# Altium integrated library Xilinx XC17S00.IntLib: 62 symbols (part 1 of 2)
Pins are listed as number, name and electrical type; pins without a type are passive.

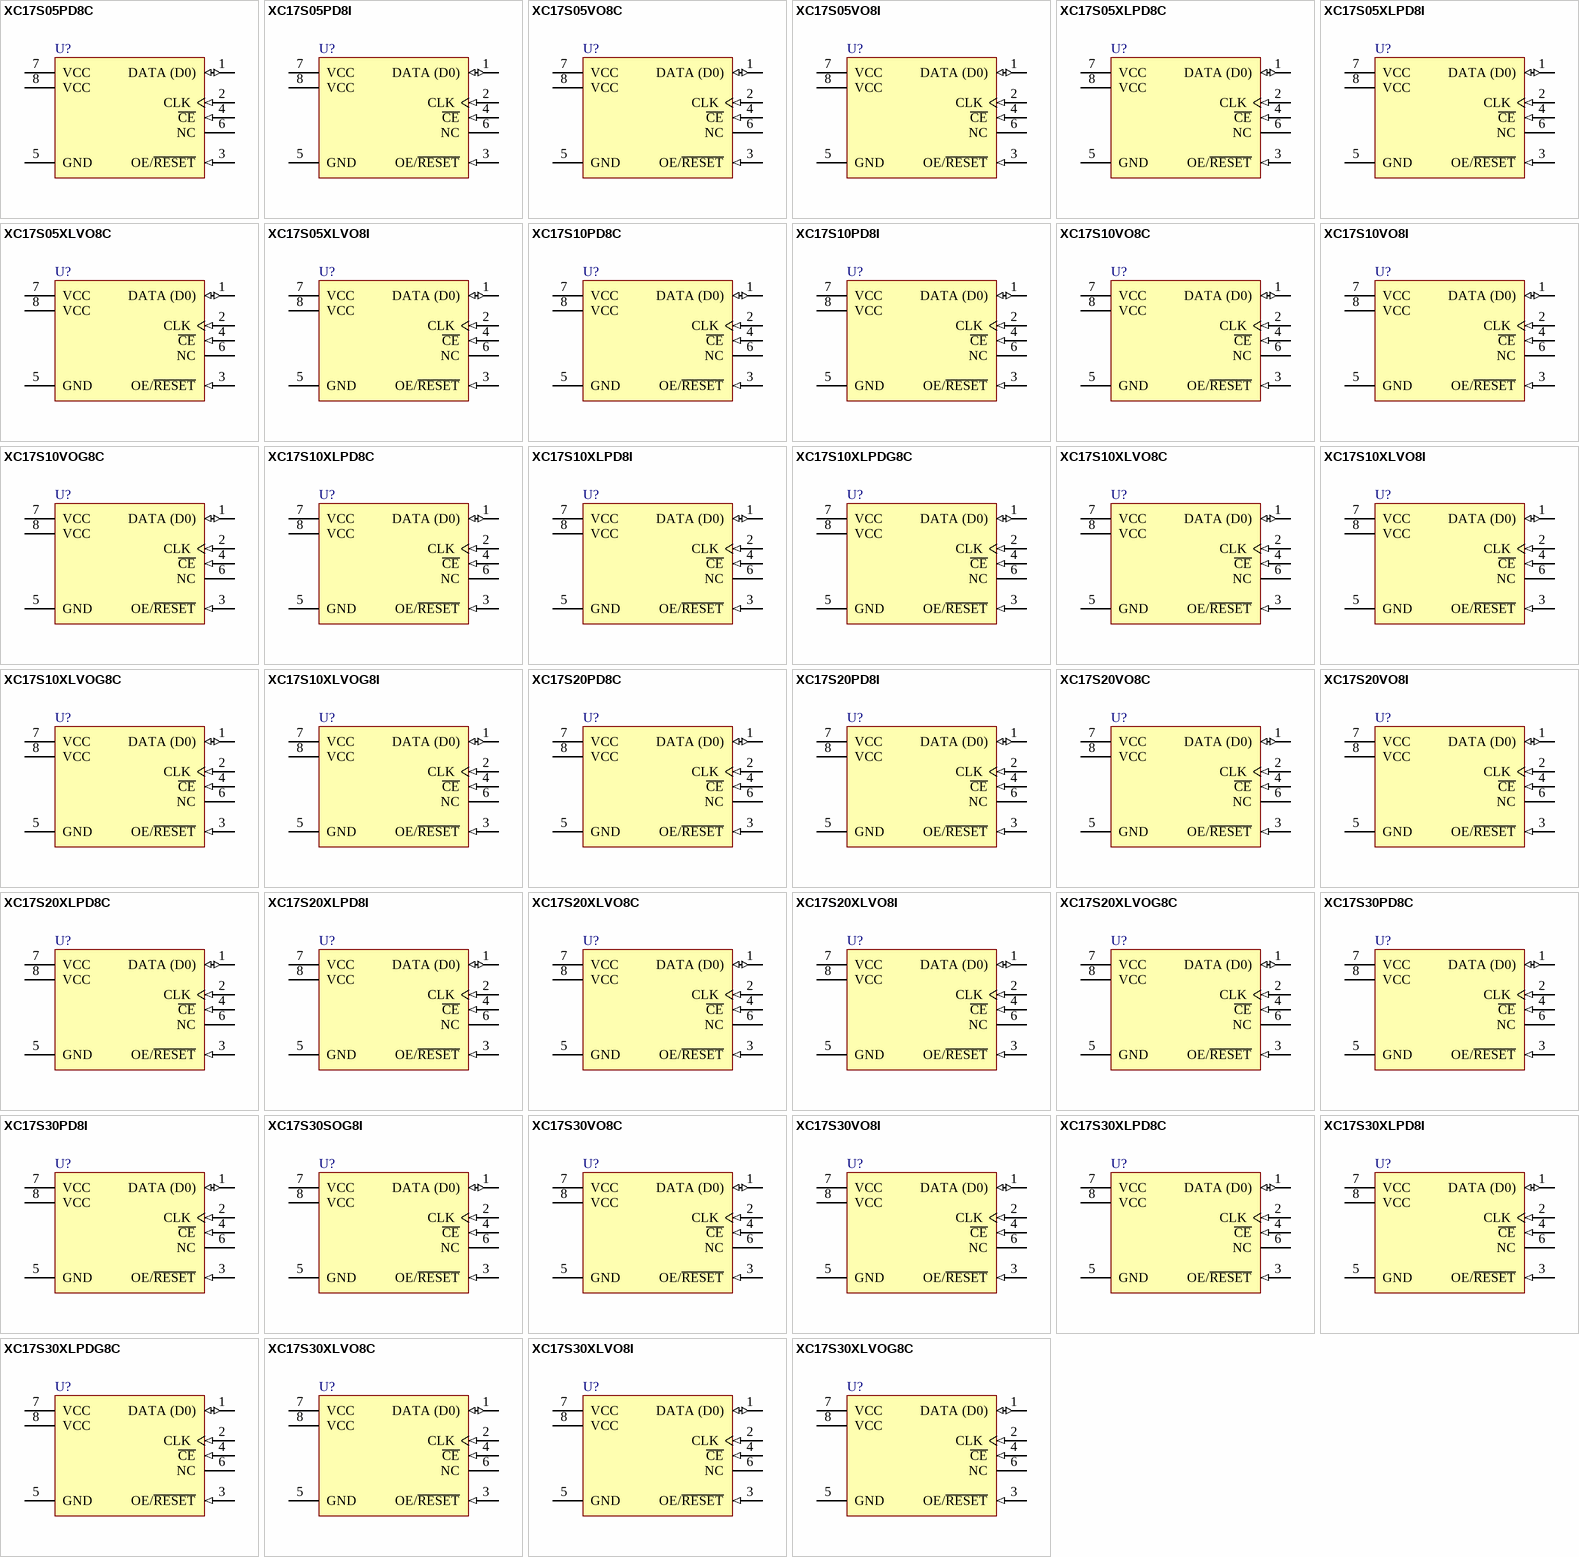
[diagram p0: symbols XC17S05PD8C to XC17S30XLVOG8C]

## XC17S05PD8C
designator U?
XC17S00 Series, One-Time Programmable Configuration 5V PROM, 8-Pin PDIP, XCS05 Compatible, Commercial Grade; Published: 17-Dec-2003; DatasheetVersion: ver1.12, Jun-2008; PackageVersion: rev1.1, Apr-2001; PackageReference: PD8; Publisher: Altium Limited; PackageDescription: 8-Pin Plastic DIP (PD8); Supplier 1: Digi-Key; Supplier Part Number 1: XC17S05PD8C-ND; Code_JEDEC: MS-001-BA; ComponentLink1Description: XC17S00/XL Datasheet; ComponentLink1URL: http://www.xilinx.com/support/documentation/data_sheets/ds030.pdf; ComponentLink2Description: PD8 Package Drawing; ComponentLink2URL: http://www.xilinx.com/support/documentation/package_specs/pd08.pdf; ComponentLink3Description: Configuration PROM Documents; ComponentLink3URL: http://www.xilinx.com/support/documentation/configuration_proms.htm; ComponentLink4Description: Xilinx.com Home; ComponentLink4URL: http://www.xilinx.com
footprint PD8 (DIP, 8-Leads, Row Spacing 7.62mm, Pitch 2.54mm, Body 9.36x6.5mm)
pins: 1 DATA (D0) (io) "Data Output.", 2 CLK (in) "Clock input for internal address counter.", 3 OE/~{RESET} (in) "DATA Output Enable/Address Counter Reset", 4 ~{CE} (in) "Reset internal Address Counter, Disable DATA Output, Force device into Standby Mode.", 5 GND (power) "Ground.", 6 NC "No Connection.", 7 VCC (power) "Positive Supply.", 8 VCC (power) "Positive Supply."

## XC17S05PD8I
designator U?
XC17S00 Series, One-Time Programmable Configuration 5V PROM, 8-Pin PDIP, XCS05 Compatible, Industrial Grade; Published: 17-Dec-2003; DatasheetVersion: ver1.12, Jun-2008; PackageVersion: rev1.1, Apr-2001; PackageReference: PD8; Publisher: Altium Limited; PackageDescription: 8-Pin Plastic DIP (PD8); Supplier 1: Digi-Key; Supplier Part Number 1: XC17S05PD8I-ND; Code_JEDEC: MS-001-BA; ComponentLink1Description: XC17S00/XL Datasheet; ComponentLink1URL: http://www.xilinx.com/support/documentation/data_sheets/ds030.pdf; ComponentLink2Description: PD8 Package Drawing; ComponentLink2URL: http://www.xilinx.com/support/documentation/package_specs/pd08.pdf; ComponentLink3Description: Configuration PROM Documents; ComponentLink3URL: http://www.xilinx.com/support/documentation/configuration_proms.htm; ComponentLink4Description: Xilinx.com Home; ComponentLink4URL: http://www.xilinx.com
footprint PD8 (DIP, 8-Leads, Row Spacing 7.62mm, Pitch 2.54mm, Body 9.36x6.5mm)
pins: 1 DATA (D0) (io) "Data Output.", 2 CLK (in) "Clock input for internal address counter.", 3 OE/~{RESET} (in) "DATA Output Enable/Address Counter Reset", 4 ~{CE} (in) "Reset internal Address Counter, Disable DATA Output, Force device into Standby Mode.", 5 GND (power) "Ground.", 6 NC "No Connection.", 7 VCC (power) "Positive Supply.", 8 VCC (power) "Positive Supply."

## XC17S05VO8C
designator U?
XC17S00 Series, One-Time Programmable Configuration 5V PROM, 8-Pin TSOP, XCS05 Compatible, Commercial Grade; Published: 17-Dec-2003; LatestRevisionDate: 16-Nov-2009; LatestRevisionNote: Updated to datasheet version 1.12, Jun-2008.; DatasheetVersion: ver1.12, Jun-2008; PackageVersion: ver1.1, Apr-2001; PackageReference: VO8; Publisher: Altium Limited; PackageDescription: 8-Pin Thin Small Outline Package (VO8); Supplier 1: Digi-Key; Supplier Part Number 1: XC17S05VO8C-ND; ComponentLink1Description: XC17S00/XL Datasheet; ComponentLink1URL: http://www.xilinx.com/support/documentation/data_sheets/ds030.pdf; ComponentLink2Description: VO8 Package Drawing; ComponentLink2URL: http://www.xilinx.com/support/documentation/package_specs/vo8.pdf; ComponentLink3Description: Configuration PROM Documents; ComponentLink3URL: http://www.xilinx.com/support/documentation/configuration_proms.htm; ComponentLink4Description: Xilinx.com Home; ComponentLink4URL: http://www.xilinx.com
footprint VO8_N (SOIC, 8-Leads, Body 4.9x3.9mm, Pitch 1.27mm, IPC Medium Density)
footprint VO8_L (SOIC, 8-Leads, Body 4.9x3.9mm, Pitch 1.27mm, IPC High Density)
footprint VO8_M (SOIC, 8-Leads, Body 4.9x3.9mm, Pitch 1.27mm, IPC Low Density)
pins: 1 DATA (D0) (io) "Data Output.", 2 CLK (in) "Clock input for internal address counter.", 3 OE/~{RESET} (in) "DATA Output Enable/Address Counter Reset", 4 ~{CE} (in) "Reset internal Address Counter, Disable DATA Output, Force device into Standby Mode.", 5 GND (power) "Ground.", 6 NC "No Connection.", 7 VCC (power) "Positive Supply.", 8 VCC (power) "Positive Supply."

## XC17S05VO8I
designator U?
XC17S00 Series, One-Time Programmable Configuration 5V PROM, 8-Pin TSOP, XCS05 Compatible, Industrial Grade; Published: 17-Dec-2003; LatestRevisionDate: 16-Nov-2009; LatestRevisionNote: Updated to datasheet version 1.12, Jun-2008.; DatasheetVersion: ver1.12, Jun-2008; PackageVersion: ver1.1, Apr-2001; PackageReference: VO8; Publisher: Altium Limited; PackageDescription: 8-Pin Thin Small Outline Package (VO8); Supplier 1: Digi-Key; Supplier Part Number 1: XC17S05VO8I-ND; ComponentLink1Description: XC17S00/XL Datasheet; ComponentLink1URL: http://www.xilinx.com/support/documentation/data_sheets/ds030.pdf; ComponentLink2Description: VO8 Package Drawing; ComponentLink2URL: http://www.xilinx.com/support/documentation/package_specs/vo8.pdf; ComponentLink3Description: Configuration PROM Documents; ComponentLink3URL: http://www.xilinx.com/support/documentation/configuration_proms.htm; ComponentLink4Description: Xilinx.com Home; ComponentLink4URL: http://www.xilinx.com
footprint VO8_N (SOIC, 8-Leads, Body 4.9x3.9mm, Pitch 1.27mm, IPC Medium Density)
footprint VO8_L (SOIC, 8-Leads, Body 4.9x3.9mm, Pitch 1.27mm, IPC High Density)
footprint VO8_M (SOIC, 8-Leads, Body 4.9x3.9mm, Pitch 1.27mm, IPC Low Density)
pins: 1 DATA (D0) (io) "Data Output.", 2 CLK (in) "Clock input for internal address counter.", 3 OE/~{RESET} (in) "DATA Output Enable/Address Counter Reset", 4 ~{CE} (in) "Reset internal Address Counter, Disable DATA Output, Force device into Standby Mode.", 5 GND (power) "Ground.", 6 NC "No Connection.", 7 VCC (power) "Positive Supply.", 8 VCC (power) "Positive Supply."

## XC17S05XLPD8C
designator U?
XC17S00XL Series, One-Time Programmable Configuration 3.3V PROM, 8-Pin PDIP, XCS05XL Compatible, Commercial Grade; Published: 17-Dec-2003; DatasheetVersion: ver1.12, Jun-2008; PackageVersion: rev1.1, Apr-2001; PackageReference: PD8; Publisher: Altium Limited; PackageDescription: 8-Pin Plastic DIP (PD8); Supplier 1: Digi-Key; Supplier Part Number 1: XC17S05XLPD8C-ND; Code_JEDEC: MS-001-BA; ComponentLink1Description: XC17S00/XL Datasheet; ComponentLink1URL: http://www.xilinx.com/support/documentation/data_sheets/ds030.pdf; ComponentLink2Description: PD8 Package Drawing; ComponentLink2URL: http://www.xilinx.com/support/documentation/package_specs/pd08.pdf; ComponentLink3Description: Configuration PROM Documents; ComponentLink3URL: http://www.xilinx.com/support/documentation/configuration_proms.htm; ComponentLink4Description: Xilinx.com Home; ComponentLink4URL: http://www.xilinx.com
footprint PD8 (DIP, 8-Leads, Row Spacing 7.62mm, Pitch 2.54mm, Body 9.36x6.5mm)
pins: 1 DATA (D0) (io) "Data Output.", 2 CLK (in) "Clock input for internal address counter.", 3 OE/~{RESET} (in) "DATA Output Enable/Address Counter Reset", 4 ~{CE} (in) "Reset internal Address Counter, Disable DATA Output, Force device into Standby Mode.", 5 GND (power) "Ground.", 6 NC "No Connection.", 7 VCC (power) "Positive Supply.", 8 VCC (power) "Positive Supply."

## XC17S05XLPD8I
designator U?
XC17S00XL Series, One-Time Programmable Configuration 3.3V PROM, 8-Pin PDIP, XCS05XL Compatible, Industrial Grade; Published: 17-Dec-2003; DatasheetVersion: ver1.12, Jun-2008; PackageVersion: rev1.1, Apr-2001; PackageReference: PD8; Publisher: Altium Limited; PackageDescription: 8-Pin Plastic DIP (PD8); Supplier 1: Digi-Key; Supplier Part Number 1: XC17S05XLPD8I-ND; Code_JEDEC: MS-001-BA; ComponentLink1Description: XC17S00/XL Datasheet; ComponentLink1URL: http://www.xilinx.com/support/documentation/data_sheets/ds030.pdf; ComponentLink2Description: PD8 Package Drawing; ComponentLink2URL: http://www.xilinx.com/support/documentation/package_specs/pd08.pdf; ComponentLink3Description: Configuration PROM Documents; ComponentLink3URL: http://www.xilinx.com/support/documentation/configuration_proms.htm; ComponentLink4Description: Xilinx.com Home; ComponentLink4URL: http://www.xilinx.com
footprint PD8 (DIP, 8-Leads, Row Spacing 7.62mm, Pitch 2.54mm, Body 9.36x6.5mm)
pins: 1 DATA (D0) (io) "Data Output.", 2 CLK (in) "Clock input for internal address counter.", 3 OE/~{RESET} (in) "DATA Output Enable/Address Counter Reset", 4 ~{CE} (in) "Reset internal Address Counter, Disable DATA Output, Force device into Standby Mode.", 5 GND (power) "Ground.", 6 NC "No Connection.", 7 VCC (power) "Positive Supply.", 8 VCC (power) "Positive Supply."

## XC17S05XLVO8C
designator U?
XC17S00XL Series, One-Time Programmable Configuration 3.3V PROM, 8-Pin TSOP, XCS05XL Compatible, Commercial Grade; Published: 17-Dec-2003; LatestRevisionDate: 16-Nov-2009; LatestRevisionNote: Updated to datasheet version 1.12, Jun-2008.; DatasheetVersion: ver1.12, Jun-2008; PackageVersion: ver1.1, Apr-2001; PackageReference: VO8; Publisher: Altium Limited; PackageDescription: 8-Pin Thin Small Outline Package (VO8); Supplier 1: Digi-Key; Supplier Part Number 1: XC17S05XLVO8C-ND; ComponentLink1Description: XC17S00/XL Datasheet; ComponentLink1URL: http://www.xilinx.com/support/documentation/data_sheets/ds030.pdf; ComponentLink2Description: VO8 Package Drawing; ComponentLink2URL: http://www.xilinx.com/support/documentation/package_specs/vo8.pdf; ComponentLink3Description: Configuration PROM Documents; ComponentLink3URL: http://www.xilinx.com/support/documentation/configuration_proms.htm; ComponentLink4Description: Xilinx.com Home; ComponentLink4URL: http://www.xilinx.com
footprint VO8_N (SOIC, 8-Leads, Body 4.9x3.9mm, Pitch 1.27mm, IPC Medium Density)
footprint VO8_L (SOIC, 8-Leads, Body 4.9x3.9mm, Pitch 1.27mm, IPC High Density)
footprint VO8_M (SOIC, 8-Leads, Body 4.9x3.9mm, Pitch 1.27mm, IPC Low Density)
pins: 1 DATA (D0) (io) "Data Output.", 2 CLK (in) "Clock input for internal address counter.", 3 OE/~{RESET} (in) "DATA Output Enable/Address Counter Reset", 4 ~{CE} (in) "Reset internal Address Counter, Disable DATA Output, Force device into Standby Mode.", 5 GND (power) "Ground.", 6 NC "No Connection.", 7 VCC (power) "Positive Supply.", 8 VCC (power) "Positive Supply."

## XC17S05XLVO8I
designator U?
XC17S00XL Series, One-Time Programmable Configuration 3.3V PROM, 8-Pin TSOP, XCS05XL Compatible, Industrial Grade; Published: 17-Dec-2003; LatestRevisionDate: 16-Nov-2009; LatestRevisionNote: Updated to datasheet version 1.12, Jun-2008.; DatasheetVersion: ver1.12, Jun-2008; PackageVersion: ver1.1, Apr-2001; PackageReference: VO8; Publisher: Altium Limited; PackageDescription: 8-Pin Thin Small Outline Package (VO8); Supplier 1: Digi-Key; Supplier Part Number 1: XC17S05XLVO8I-ND; ComponentLink1Description: XC17S00/XL Datasheet; ComponentLink1URL: http://www.xilinx.com/support/documentation/data_sheets/ds030.pdf; ComponentLink2Description: VO8 Package Drawing; ComponentLink2URL: http://www.xilinx.com/support/documentation/package_specs/vo8.pdf; ComponentLink3Description: Configuration PROM Documents; ComponentLink3URL: http://www.xilinx.com/support/documentation/configuration_proms.htm; ComponentLink4Description: Xilinx.com Home; ComponentLink4URL: http://www.xilinx.com
footprint VO8_N (SOIC, 8-Leads, Body 4.9x3.9mm, Pitch 1.27mm, IPC Medium Density)
footprint VO8_L (SOIC, 8-Leads, Body 4.9x3.9mm, Pitch 1.27mm, IPC High Density)
footprint VO8_M (SOIC, 8-Leads, Body 4.9x3.9mm, Pitch 1.27mm, IPC Low Density)
pins: 1 DATA (D0) (io) "Data Output.", 2 CLK (in) "Clock input for internal address counter.", 3 OE/~{RESET} (in) "DATA Output Enable/Address Counter Reset", 4 ~{CE} (in) "Reset internal Address Counter, Disable DATA Output, Force device into Standby Mode.", 5 GND (power) "Ground.", 6 NC "No Connection.", 7 VCC (power) "Positive Supply.", 8 VCC (power) "Positive Supply."

## XC17S10PD8C
designator U?
XC17S00 Series, One-Time Programmable Configuration 5V PROM, 8-Pin PDIP, XCS10 Compatible, Commercial Grade; Published: 17-Dec-2003; DatasheetVersion: ver1.12, Jun-2008; PackageVersion: rev1.1, Apr-2001; PackageReference: PD8; Publisher: Altium Limited; PackageDescription: 8-Pin Plastic DIP (PD8); Supplier 1: Digi-Key; Supplier Part Number 1: XC17S10PD8C-ND; Code_JEDEC: MS-001-BA; ComponentLink1Description: XC17S00/XL Datasheet; ComponentLink1URL: http://www.xilinx.com/support/documentation/data_sheets/ds030.pdf; ComponentLink2Description: PD8 Package Drawing; ComponentLink2URL: http://www.xilinx.com/support/documentation/package_specs/pd08.pdf; ComponentLink3Description: Configuration PROM Documents; ComponentLink3URL: http://www.xilinx.com/support/documentation/configuration_proms.htm; ComponentLink4Description: Xilinx.com Home; ComponentLink4URL: http://www.xilinx.com
footprint PD8 (DIP, 8-Leads, Row Spacing 7.62mm, Pitch 2.54mm, Body 9.36x6.5mm)
pins: 1 DATA (D0) (io) "Data Output.", 2 CLK (in) "Clock input for internal address counter.", 3 OE/~{RESET} (in) "DATA Output Enable/Address Counter Reset", 4 ~{CE} (in) "Reset internal Address Counter, Disable DATA Output, Force device into Standby Mode.", 5 GND (power) "Ground.", 6 NC "No Connection.", 7 VCC (power) "Positive Supply.", 8 VCC (power) "Positive Supply."

## XC17S10PD8I
designator U?
XC17S00 Series, One-Time Programmable Configuration 5V PROM, 8-Pin PDIP, XCS10 Compatible, Industrial Grade; Published: 17-Dec-2003; DatasheetVersion: ver1.12, Jun-2008; PackageVersion: rev1.1, Apr-2001; PackageReference: PD8; Publisher: Altium Limited; PackageDescription: 8-Pin Plastic DIP (PD8); Supplier 1: Digi-Key; Supplier Part Number 1: XC17S10PD8I-ND; Code_JEDEC: MS-001-BA; ComponentLink1Description: XC17S00/XL Datasheet; ComponentLink1URL: http://www.xilinx.com/support/documentation/data_sheets/ds030.pdf; ComponentLink2Description: PD8 Package Drawing; ComponentLink2URL: http://www.xilinx.com/support/documentation/package_specs/pd08.pdf; ComponentLink3Description: Configuration PROM Documents; ComponentLink3URL: http://www.xilinx.com/support/documentation/configuration_proms.htm; ComponentLink4Description: Xilinx.com Home; ComponentLink4URL: http://www.xilinx.com
footprint PD8 (DIP, 8-Leads, Row Spacing 7.62mm, Pitch 2.54mm, Body 9.36x6.5mm)
pins: 1 DATA (D0) (io) "Data Output.", 2 CLK (in) "Clock input for internal address counter.", 3 OE/~{RESET} (in) "DATA Output Enable/Address Counter Reset", 4 ~{CE} (in) "Reset internal Address Counter, Disable DATA Output, Force device into Standby Mode.", 5 GND (power) "Ground.", 6 NC "No Connection.", 7 VCC (power) "Positive Supply.", 8 VCC (power) "Positive Supply."

## XC17S10VO8C
designator U?
XC17S00 Series, One-Time Programmable Configuration 5V PROM, 8-Pin TSOP, XCS10 Compatible, Commercial Grade; Published: 17-Dec-2003; LatestRevisionDate: 16-Nov-2009; LatestRevisionNote: Updated to datasheet version 1.12, Jun-2008.; DatasheetVersion: ver1.12, Jun-2008; PackageVersion: ver1.1, Apr-2001; PackageReference: VO8; Publisher: Altium Limited; PackageDescription: 8-Pin Thin Small Outline Package (VO8); Supplier 1: Digi-Key; Supplier Part Number 1: XC17S10VO8C-ND; ComponentLink1Description: XC17S00/XL Datasheet; ComponentLink1URL: http://www.xilinx.com/support/documentation/data_sheets/ds030.pdf; ComponentLink2Description: VO8 Package Drawing; ComponentLink2URL: http://www.xilinx.com/support/documentation/package_specs/vo8.pdf; ComponentLink3Description: Configuration PROM Documents; ComponentLink3URL: http://www.xilinx.com/support/documentation/configuration_proms.htm; ComponentLink4Description: Xilinx.com Home; ComponentLink4URL: http://www.xilinx.com
footprint VO8_N (SOIC, 8-Leads, Body 4.9x3.9mm, Pitch 1.27mm, IPC Medium Density)
footprint VO8_L (SOIC, 8-Leads, Body 4.9x3.9mm, Pitch 1.27mm, IPC High Density)
footprint VO8_M (SOIC, 8-Leads, Body 4.9x3.9mm, Pitch 1.27mm, IPC Low Density)
pins: 1 DATA (D0) (io) "Data Output.", 2 CLK (in) "Clock input for internal address counter.", 3 OE/~{RESET} (in) "DATA Output Enable/Address Counter Reset", 4 ~{CE} (in) "Reset internal Address Counter, Disable DATA Output, Force device into Standby Mode.", 5 GND (power) "Ground.", 6 NC "No Connection.", 7 VCC (power) "Positive Supply.", 8 VCC (power) "Positive Supply."

## XC17S10VO8I
designator U?
XC17S00 Series, One-Time Programmable Configuration 5V PROM, 8-Pin TSOP, XCS10 Compatible, Industrial Grade; Published: 17-Dec-2003; LatestRevisionDate: 16-Nov-2009; LatestRevisionNote: Updated to datasheet version 1.12, Jun-2008.; DatasheetVersion: ver1.12, Jun-2008; PackageVersion: ver1.1, Apr-2001; PackageReference: VO8; Publisher: Altium Limited; PackageDescription: 8-Pin Thin Small Outline Package (VO8); Supplier 1: Digi-Key; Supplier Part Number 1: XC17S10VO8I-ND; ComponentLink1Description: XC17S00/XL Datasheet; ComponentLink1URL: http://www.xilinx.com/support/documentation/data_sheets/ds030.pdf; ComponentLink2Description: VO8 Package Drawing; ComponentLink2URL: http://www.xilinx.com/support/documentation/package_specs/vo8.pdf; ComponentLink3Description: Configuration PROM Documents; ComponentLink3URL: http://www.xilinx.com/support/documentation/configuration_proms.htm; ComponentLink4Description: Xilinx.com Home; ComponentLink4URL: http://www.xilinx.com
footprint VO8_N (SOIC, 8-Leads, Body 4.9x3.9mm, Pitch 1.27mm, IPC Medium Density)
footprint VO8_L (SOIC, 8-Leads, Body 4.9x3.9mm, Pitch 1.27mm, IPC High Density)
footprint VO8_M (SOIC, 8-Leads, Body 4.9x3.9mm, Pitch 1.27mm, IPC Low Density)
pins: 1 DATA (D0) (io) "Data Output.", 2 CLK (in) "Clock input for internal address counter.", 3 OE/~{RESET} (in) "DATA Output Enable/Address Counter Reset", 4 ~{CE} (in) "Reset internal Address Counter, Disable DATA Output, Force device into Standby Mode.", 5 GND (power) "Ground.", 6 NC "No Connection.", 7 VCC (power) "Positive Supply.", 8 VCC (power) "Positive Supply."

## XC17S10VOG8C
designator U?
XC17S00 Series, One-Time Programmable Configuration 5V PROM, 8-Pin TSOP, XCS10 Compatible, Commercial Grade, Pb-Free; Published: 17-Nov-2009; DatasheetVersion: ver1.12, Jun-2008; PackageVersion: ver1.1, Apr-2001; PackageReference: VOG8; Publisher: Altium Limited; PackageDescription: 8-Pin Thin Small Outline Package (VOG8) - Pb-Free; Supplier 1: Digi-Key; Supplier Part Number 1: XC17S10VOG8C-ND; ComponentLink1Description: XC17S00/XL Datasheet; ComponentLink1URL: http://www.xilinx.com/support/documentation/data_sheets/ds030.pdf; ComponentLink2Description: VOG8 Package Drawing; ComponentLink2URL: http://www.xilinx.com/support/documentation/package_specs/vo8.pdf; ComponentLink3Description: Configuration PROM Documents; ComponentLink3URL: http://www.xilinx.com/support/documentation/configuration_proms.htm; ComponentLink4Description: Xilinx.com Home; ComponentLink4URL: http://www.xilinx.com
footprint VOG8_N (SOIC, 8-Leads, Body 4.9x3.9mm, Pitch 1.27mm, IPC Medium Density)
footprint VOG8_L (SOIC, 8-Leads, Body 4.9x3.9mm, Pitch 1.27mm, IPC High Density)
footprint VOG8_M (SOIC, 8-Leads, Body 4.9x3.9mm, Pitch 1.27mm, IPC Low Density)
pins: 1 DATA (D0) (io) "Data Output.", 2 CLK (in) "Clock input for internal address counter.", 3 OE/~{RESET} (in) "DATA Output Enable/Address Counter Reset", 4 ~{CE} (in) "Reset internal Address Counter, Disable DATA Output, Force device into Standby Mode.", 5 GND (power) "Ground.", 6 NC "No Connection.", 7 VCC (power) "Positive Supply.", 8 VCC (power) "Positive Supply."

## XC17S10XLPD8C
designator U?
XC17S00XL Series, One-Time Programmable Configuration 3.3V PROM, 8-Pin PDIP, XCS10XL Compatible, Commercial Grade; Published: 17-Dec-2003; DatasheetVersion: ver1.12, Jun-2008; PackageVersion: rev1.1, Apr-2001; PackageReference: PD8; Publisher: Altium Limited; PackageDescription: 8-Pin Plastic DIP (PD8); Supplier 1: Digi-Key; Supplier Part Number 1: XC17S10XLPD8C-ND; Code_JEDEC: MS-001-BA; ComponentLink1Description: XC17S00/XL Datasheet; ComponentLink1URL: http://www.xilinx.com/support/documentation/data_sheets/ds030.pdf; ComponentLink2Description: PD8 Package Drawing; ComponentLink2URL: http://www.xilinx.com/support/documentation/package_specs/pd08.pdf; ComponentLink3Description: Configuration PROM Documents; ComponentLink3URL: http://www.xilinx.com/support/documentation/configuration_proms.htm; ComponentLink4Description: Xilinx.com Home; ComponentLink4URL: http://www.xilinx.com
footprint PD8 (DIP, 8-Leads, Row Spacing 7.62mm, Pitch 2.54mm, Body 9.36x6.5mm)
pins: 1 DATA (D0) (io) "Data Output.", 2 CLK (in) "Clock input for internal address counter.", 3 OE/~{RESET} (in) "DATA Output Enable/Address Counter Reset", 4 ~{CE} (in) "Reset internal Address Counter, Disable DATA Output, Force device into Standby Mode.", 5 GND (power) "Ground.", 6 NC "No Connection.", 7 VCC (power) "Positive Supply.", 8 VCC (power) "Positive Supply."

## XC17S10XLPD8I
designator U?
XC17S00XL Series, One-Time Programmable Configuration 3.3V PROM, 8-Pin PDIP, XCS10XL Compatible, Industrial Grade; Published: 17-Dec-2003; DatasheetVersion: ver1.12, Jun-2008; PackageVersion: rev1.1, Apr-2001; PackageReference: PD8; Publisher: Altium Limited; PackageDescription: 8-Pin Plastic DIP (PD8); Supplier 1: Digi-Key; Supplier Part Number 1: XC17S10XLPD8I-ND; Code_JEDEC: MS-001-BA; ComponentLink1Description: XC17S00/XL Datasheet; ComponentLink1URL: http://www.xilinx.com/support/documentation/data_sheets/ds030.pdf; ComponentLink2Description: PD8 Package Drawing; ComponentLink2URL: http://www.xilinx.com/support/documentation/package_specs/pd08.pdf; ComponentLink3Description: Configuration PROM Documents; ComponentLink3URL: http://www.xilinx.com/support/documentation/configuration_proms.htm; ComponentLink4Description: Xilinx.com Home; ComponentLink4URL: http://www.xilinx.com
footprint PD8 (DIP, 8-Leads, Row Spacing 7.62mm, Pitch 2.54mm, Body 9.36x6.5mm)
pins: 1 DATA (D0) (io) "Data Output.", 2 CLK (in) "Clock input for internal address counter.", 3 OE/~{RESET} (in) "DATA Output Enable/Address Counter Reset", 4 ~{CE} (in) "Reset internal Address Counter, Disable DATA Output, Force device into Standby Mode.", 5 GND (power) "Ground.", 6 NC "No Connection.", 7 VCC (power) "Positive Supply.", 8 VCC (power) "Positive Supply."

## XC17S10XLPDG8C
designator U?
XC17S00XL Series, One-Time Programmable Configuration 3.3V PROM, 8-Pin PDIP, XCS10XL Compatible, Commercial Grade, Pb-Free; Published: 17-Nov-2009; DatasheetVersion: ver1.12, Jun-2008; PackageVersion: rev1.1, Apr-2001; PackageReference: PDG8; Publisher: Altium Limited; PackageDescription: 8-Pin Plastic DIP (PDG8), Pb-Free; Supplier 1: Digi-Key; Supplier Part Number 1: XC17S10XLPDG8C-ND; Code_JEDEC: MS-001-BA; ComponentLink1Description: XC17S00/XL Datasheet; ComponentLink1URL: http://www.xilinx.com/support/documentation/data_sheets/ds030.pdf; ComponentLink2Description: PDG8 Package Drawing; ComponentLink2URL: http://www.xilinx.com/support/documentation/package_specs/pd08.pdf; ComponentLink3Description: Configuration PROM Documents; ComponentLink3URL: http://www.xilinx.com/support/documentation/configuration_proms.htm; ComponentLink4Description: Xilinx.com Home; ComponentLink4URL: http://www.xilinx.com
footprint PDG8 (DIP, 8-Leads, Row Spacing 7.62mm, Pitch 2.54mm, Body 9.36x6.5mm)
pins: 1 DATA (D0) (io) "Data Output.", 2 CLK (in) "Clock input for internal address counter.", 3 OE/~{RESET} (in) "DATA Output Enable/Address Counter Reset", 4 ~{CE} (in) "Reset internal Address Counter, Disable DATA Output, Force device into Standby Mode.", 5 GND (power) "Ground.", 6 NC "No Connection.", 7 VCC (power) "Positive Supply.", 8 VCC (power) "Positive Supply."

## XC17S10XLVO8C
designator U?
XC17S00XL Series, One-Time Programmable Configuration 3.3V PROM, 8-Pin TSOP, XCS10XL Compatible, Commercial Grade; Published: 17-Dec-2003; LatestRevisionDate: 16-Nov-2009; LatestRevisionNote: Updated to datasheet version 1.12, Jun-2008.; DatasheetVersion: ver1.12, Jun-2008; PackageVersion: ver1.1, Apr-2001; PackageReference: VO8; Publisher: Altium Limited; PackageDescription: 8-Pin Thin Small Outline Package (VO8); Supplier 1: Digi-Key; Supplier Part Number 1: XC17S10XLVO8C-ND; ComponentLink1Description: XC17S00/XL Datasheet; ComponentLink1URL: http://www.xilinx.com/support/documentation/data_sheets/ds030.pdf; ComponentLink2Description: VO8 Package Drawing; ComponentLink2URL: http://www.xilinx.com/support/documentation/package_specs/vo8.pdf; ComponentLink3Description: Configuration PROM Documents; ComponentLink3URL: http://www.xilinx.com/support/documentation/configuration_proms.htm; ComponentLink4Description: Xilinx.com Home; ComponentLink4URL: http://www.xilinx.com
footprint VO8_N (SOIC, 8-Leads, Body 4.9x3.9mm, Pitch 1.27mm, IPC Medium Density)
footprint VO8_L (SOIC, 8-Leads, Body 4.9x3.9mm, Pitch 1.27mm, IPC High Density)
footprint VO8_M (SOIC, 8-Leads, Body 4.9x3.9mm, Pitch 1.27mm, IPC Low Density)
pins: 1 DATA (D0) (io) "Data Output.", 2 CLK (in) "Clock input for internal address counter.", 3 OE/~{RESET} (in) "DATA Output Enable/Address Counter Reset", 4 ~{CE} (in) "Reset internal Address Counter, Disable DATA Output, Force device into Standby Mode.", 5 GND (power) "Ground.", 6 NC "No Connection.", 7 VCC (power) "Positive Supply.", 8 VCC (power) "Positive Supply."

## XC17S10XLVO8I
designator U?
XC17S00XL Series, One-Time Programmable Configuration 3.3V PROM, 8-Pin TSOP, XCS10XL Compatible, Industrial Grade; Published: 17-Dec-2003; LatestRevisionDate: 16-Nov-2009; LatestRevisionNote: Updated to datasheet version 1.12, Jun-2008.; DatasheetVersion: ver1.12, Jun-2008; PackageVersion: ver1.1, Apr-2001; PackageReference: VO8; Publisher: Altium Limited; PackageDescription: 8-Pin Thin Small Outline Package (VO8); Supplier 1: Digi-Key; Supplier Part Number 1: XC17S10XLVO8I-ND; ComponentLink1Description: XC17S00/XL Datasheet; ComponentLink1URL: http://www.xilinx.com/support/documentation/data_sheets/ds030.pdf; ComponentLink2Description: VO8 Package Drawing; ComponentLink2URL: http://www.xilinx.com/support/documentation/package_specs/vo8.pdf; ComponentLink3Description: Configuration PROM Documents; ComponentLink3URL: http://www.xilinx.com/support/documentation/configuration_proms.htm; ComponentLink4Description: Xilinx.com Home; ComponentLink4URL: http://www.xilinx.com
footprint VO8_N (SOIC, 8-Leads, Body 4.9x3.9mm, Pitch 1.27mm, IPC Medium Density)
footprint VO8_L (SOIC, 8-Leads, Body 4.9x3.9mm, Pitch 1.27mm, IPC High Density)
footprint VO8_M (SOIC, 8-Leads, Body 4.9x3.9mm, Pitch 1.27mm, IPC Low Density)
pins: 1 DATA (D0) (io) "Data Output.", 2 CLK (in) "Clock input for internal address counter.", 3 OE/~{RESET} (in) "DATA Output Enable/Address Counter Reset", 4 ~{CE} (in) "Reset internal Address Counter, Disable DATA Output, Force device into Standby Mode.", 5 GND (power) "Ground.", 6 NC "No Connection.", 7 VCC (power) "Positive Supply.", 8 VCC (power) "Positive Supply."

## XC17S10XLVOG8C
designator U?
XC17S00XL Series, One-Time Programmable Configuration 3.3V PROM, 8-Pin TSOP, XCS10XL Compatible, Commercial Grade, Pb-Free; Published: 17-Nov-2009; DatasheetVersion: ver1.12, Jun-2008; PackageVersion: ver1.1, Apr-2001; PackageReference: VOG8; Publisher: Altium Limited; PackageDescription: 8-Pin Thin Small Outline Package (VOG8) - Pb-Free; Supplier 1: Digi-Key; Supplier Part Number 1: XC17S10XLVOG8C-ND; ComponentLink1Description: XC17S00/XL Datasheet; ComponentLink1URL: http://www.xilinx.com/support/documentation/data_sheets/ds030.pdf; ComponentLink2Description: VOG8 Package Drawing; ComponentLink2URL: http://www.xilinx.com/support/documentation/package_specs/vo8.pdf; ComponentLink3Description: Configuration PROM Documents; ComponentLink3URL: http://www.xilinx.com/support/documentation/configuration_proms.htm; ComponentLink4Description: Xilinx.com Home; ComponentLink4URL: http://www.xilinx.com
footprint VOG8_N (SOIC, 8-Leads, Body 4.9x3.9mm, Pitch 1.27mm, IPC Medium Density)
footprint VOG8_L (SOIC, 8-Leads, Body 4.9x3.9mm, Pitch 1.27mm, IPC High Density)
footprint VOG8_M (SOIC, 8-Leads, Body 4.9x3.9mm, Pitch 1.27mm, IPC Low Density)
pins: 1 DATA (D0) (io) "Data Output.", 2 CLK (in) "Clock input for internal address counter.", 3 OE/~{RESET} (in) "DATA Output Enable/Address Counter Reset", 4 ~{CE} (in) "Reset internal Address Counter, Disable DATA Output, Force device into Standby Mode.", 5 GND (power) "Ground.", 6 NC "No Connection.", 7 VCC (power) "Positive Supply.", 8 VCC (power) "Positive Supply."

## XC17S10XLVOG8I
designator U?
XC17S00XL Series, One-Time Programmable Configuration 3.3V PROM, 8-Pin TSOP, XCS10XL Compatible, Industrial Grade, Pb-Free; Published: 17-Nov-2009; DatasheetVersion: ver1.12, Jun-2008; PackageVersion: ver1.1, Apr-2001; PackageReference: VOG8; Publisher: Altium Limited; PackageDescription: 8-Pin Thin Small Outline Package (VOG8) - Pb-Free; Supplier 1: Digi-Key; Supplier Part Number 1: XC17S10XLVOG8I-ND; ComponentLink1Description: XC17S00/XL Datasheet; ComponentLink1URL: http://www.xilinx.com/support/documentation/data_sheets/ds030.pdf; ComponentLink2Description: VOG8 Package Drawing; ComponentLink2URL: http://www.xilinx.com/support/documentation/package_specs/vo8.pdf; ComponentLink3Description: Configuration PROM Documents; ComponentLink3URL: http://www.xilinx.com/support/documentation/configuration_proms.htm; ComponentLink4Description: Xilinx.com Home; ComponentLink4URL: http://www.xilinx.com
footprint VOG8_N (SOIC, 8-Leads, Body 4.9x3.9mm, Pitch 1.27mm, IPC Medium Density)
footprint VOG8_L (SOIC, 8-Leads, Body 4.9x3.9mm, Pitch 1.27mm, IPC High Density)
footprint VOG8_M (SOIC, 8-Leads, Body 4.9x3.9mm, Pitch 1.27mm, IPC Low Density)
pins: 1 DATA (D0) (io) "Data Output.", 2 CLK (in) "Clock input for internal address counter.", 3 OE/~{RESET} (in) "DATA Output Enable/Address Counter Reset", 4 ~{CE} (in) "Reset internal Address Counter, Disable DATA Output, Force device into Standby Mode.", 5 GND (power) "Ground.", 6 NC "No Connection.", 7 VCC (power) "Positive Supply.", 8 VCC (power) "Positive Supply."

## XC17S20PD8C
designator U?
XC17S00 Series, One-Time Programmable Configuration 5V PROM, 8-Pin PDIP, XCS20 Compatible, Commercial Grade; Published: 17-Dec-2003; DatasheetVersion: ver1.12, Jun-2008; PackageVersion: rev1.1, Apr-2001; PackageReference: PD8; Publisher: Altium Limited; PackageDescription: 8-Pin Plastic DIP (PD8); Supplier 1: Digi-Key; Supplier Part Number 1: XC17S20PD8C-ND; Code_JEDEC: MS-001-BA; ComponentLink1Description: XC17S00/XL Datasheet; ComponentLink1URL: http://www.xilinx.com/support/documentation/data_sheets/ds030.pdf; ComponentLink2Description: PD8 Package Drawing; ComponentLink2URL: http://www.xilinx.com/support/documentation/package_specs/pd08.pdf; ComponentLink3Description: Configuration PROM Documents; ComponentLink3URL: http://www.xilinx.com/support/documentation/configuration_proms.htm; ComponentLink4Description: Xilinx.com Home; ComponentLink4URL: http://www.xilinx.com
footprint PD8 (DIP, 8-Leads, Row Spacing 7.62mm, Pitch 2.54mm, Body 9.36x6.5mm)
pins: 1 DATA (D0) (io) "Data Output.", 2 CLK (in) "Clock input for internal address counter.", 3 OE/~{RESET} (in) "DATA Output Enable/Address Counter Reset", 4 ~{CE} (in) "Reset internal Address Counter, Disable DATA Output, Force device into Standby Mode.", 5 GND (power) "Ground.", 6 NC "No Connection.", 7 VCC (power) "Positive Supply.", 8 VCC (power) "Positive Supply."

## XC17S20PD8I
designator U?
XC17S00 Series, One-Time Programmable Configuration 5V PROM, 8-Pin PDIP, XCS20 Compatible, Industrial Grade; Published: 17-Dec-2003; DatasheetVersion: ver1.12, Jun-2008; PackageVersion: rev1.1, Apr-2001; PackageReference: PD8; Publisher: Altium Limited; PackageDescription: 8-Pin Plastic DIP (PD8); Supplier 1: Digi-Key; Supplier Part Number 1: XC17S20PD8I-ND; Code_JEDEC: MS-001-BA; ComponentLink1Description: XC17S00/XL Datasheet; ComponentLink1URL: http://www.xilinx.com/support/documentation/data_sheets/ds030.pdf; ComponentLink2Description: PD8 Package Drawing; ComponentLink2URL: http://www.xilinx.com/support/documentation/package_specs/pd08.pdf; ComponentLink3Description: Configuration PROM Documents; ComponentLink3URL: http://www.xilinx.com/support/documentation/configuration_proms.htm; ComponentLink4Description: Xilinx.com Home; ComponentLink4URL: http://www.xilinx.com
footprint PD8 (DIP, 8-Leads, Row Spacing 7.62mm, Pitch 2.54mm, Body 9.36x6.5mm)
pins: 1 DATA (D0) (io) "Data Output.", 2 CLK (in) "Clock input for internal address counter.", 3 OE/~{RESET} (in) "DATA Output Enable/Address Counter Reset", 4 ~{CE} (in) "Reset internal Address Counter, Disable DATA Output, Force device into Standby Mode.", 5 GND (power) "Ground.", 6 NC "No Connection.", 7 VCC (power) "Positive Supply.", 8 VCC (power) "Positive Supply."

## XC17S20VO8C
designator U?
XC17S00 Series, One-Time Programmable Configuration 5V PROM, 8-Pin TSOP, XCS20 Compatible, Commercial Grade; Published: 17-Dec-2003; LatestRevisionDate: 16-Nov-2009; LatestRevisionNote: Updated to datasheet version 1.12, Jun-2008.; DatasheetVersion: ver1.12, Jun-2008; PackageVersion: ver1.1, Apr-2001; PackageReference: VO8; Publisher: Altium Limited; PackageDescription: 8-Pin Thin Small Outline Package (VO8); Supplier 1: Digi-Key; Supplier Part Number 1: XC17S20VO8C-ND; ComponentLink1Description: XC17S00/XL Datasheet; ComponentLink1URL: http://www.xilinx.com/support/documentation/data_sheets/ds030.pdf; ComponentLink2Description: VO8 Package Drawing; ComponentLink2URL: http://www.xilinx.com/support/documentation/package_specs/vo8.pdf; ComponentLink3Description: Configuration PROM Documents; ComponentLink3URL: http://www.xilinx.com/support/documentation/configuration_proms.htm; ComponentLink4Description: Xilinx.com Home; ComponentLink4URL: http://www.xilinx.com
footprint VO8_N (SOIC, 8-Leads, Body 4.9x3.9mm, Pitch 1.27mm, IPC Medium Density)
footprint VO8_L (SOIC, 8-Leads, Body 4.9x3.9mm, Pitch 1.27mm, IPC High Density)
footprint VO8_M (SOIC, 8-Leads, Body 4.9x3.9mm, Pitch 1.27mm, IPC Low Density)
pins: 1 DATA (D0) (io) "Data Output.", 2 CLK (in) "Clock input for internal address counter.", 3 OE/~{RESET} (in) "DATA Output Enable/Address Counter Reset", 4 ~{CE} (in) "Reset internal Address Counter, Disable DATA Output, Force device into Standby Mode.", 5 GND (power) "Ground.", 6 NC "No Connection.", 7 VCC (power) "Positive Supply.", 8 VCC (power) "Positive Supply."

## XC17S20VO8I
designator U?
XC17S00 Series, One-Time Programmable Configuration 5V PROM, 8-Pin TSOP, XCS20 Compatible, Industrial Grade; Published: 17-Dec-2003; LatestRevisionDate: 16-Nov-2009; LatestRevisionNote: Updated to datasheet version 1.12, Jun-2008.; DatasheetVersion: ver1.12, Jun-2008; PackageVersion: ver1.1, Apr-2001; PackageReference: VO8; Publisher: Altium Limited; PackageDescription: 8-Pin Thin Small Outline Package (VO8); Supplier 1: Digi-Key; Supplier Part Number 1: XC17S20VO8I-ND; ComponentLink1Description: XC17S00/XL Datasheet; ComponentLink1URL: http://www.xilinx.com/support/documentation/data_sheets/ds030.pdf; ComponentLink2Description: VO8 Package Drawing; ComponentLink2URL: http://www.xilinx.com/support/documentation/package_specs/vo8.pdf; ComponentLink3Description: Configuration PROM Documents; ComponentLink3URL: http://www.xilinx.com/support/documentation/configuration_proms.htm; ComponentLink4Description: Xilinx.com Home; ComponentLink4URL: http://www.xilinx.com
footprint VO8_N (SOIC, 8-Leads, Body 4.9x3.9mm, Pitch 1.27mm, IPC Medium Density)
footprint VO8_L (SOIC, 8-Leads, Body 4.9x3.9mm, Pitch 1.27mm, IPC High Density)
footprint VO8_M (SOIC, 8-Leads, Body 4.9x3.9mm, Pitch 1.27mm, IPC Low Density)
pins: 1 DATA (D0) (io) "Data Output.", 2 CLK (in) "Clock input for internal address counter.", 3 OE/~{RESET} (in) "DATA Output Enable/Address Counter Reset", 4 ~{CE} (in) "Reset internal Address Counter, Disable DATA Output, Force device into Standby Mode.", 5 GND (power) "Ground.", 6 NC "No Connection.", 7 VCC (power) "Positive Supply.", 8 VCC (power) "Positive Supply."

## XC17S20XLPD8C
designator U?
XC17S00XL Series, One-Time Programmable Configuration 3.3V PROM, 8-Pin PDIP, XCS20XL Compatible, Commercial Grade; Published: 17-Dec-2003; DatasheetVersion: ver1.12, Jun-2008; PackageVersion: rev1.1, Apr-2001; PackageReference: PD8; Publisher: Altium Limited; PackageDescription: 8-Pin Plastic DIP (PD8); Supplier 1: Digi-Key; Supplier Part Number 1: XC17S20XLPD8C-ND; Code_JEDEC: MS-001-BA; ComponentLink1Description: XC17S00/XL Datasheet; ComponentLink1URL: http://www.xilinx.com/support/documentation/data_sheets/ds030.pdf; ComponentLink2Description: PD8 Package Drawing; ComponentLink2URL: http://www.xilinx.com/support/documentation/package_specs/pd08.pdf; ComponentLink3Description: Configuration PROM Documents; ComponentLink3URL: http://www.xilinx.com/support/documentation/configuration_proms.htm; ComponentLink4Description: Xilinx.com Home; ComponentLink4URL: http://www.xilinx.com
footprint PD8 (DIP, 8-Leads, Row Spacing 7.62mm, Pitch 2.54mm, Body 9.36x6.5mm)
pins: 1 DATA (D0) (io) "Data Output.", 2 CLK (in) "Clock input for internal address counter.", 3 OE/~{RESET} (in) "DATA Output Enable/Address Counter Reset", 4 ~{CE} (in) "Reset internal Address Counter, Disable DATA Output, Force device into Standby Mode.", 5 GND (power) "Ground.", 6 NC "No Connection.", 7 VCC (power) "Positive Supply.", 8 VCC (power) "Positive Supply."

## XC17S20XLPD8I
designator U?
XC17S00XL Series, One-Time Programmable Configuration 3.3V PROM, 8-Pin PDIP, XCS20XL Compatible, Industrial Grade; Published: 17-Dec-2003; DatasheetVersion: ver1.12, Jun-2008; PackageVersion: rev1.1, Apr-2001; PackageReference: PD8; Publisher: Altium Limited; PackageDescription: 8-Pin Plastic DIP (PD8); Supplier 1: Digi-Key; Supplier Part Number 1: XC17S20XLPD8I-ND; Code_JEDEC: MS-001-BA; ComponentLink1Description: XC17S00/XL Datasheet; ComponentLink1URL: http://www.xilinx.com/support/documentation/data_sheets/ds030.pdf; ComponentLink2Description: PD8 Package Drawing; ComponentLink2URL: http://www.xilinx.com/support/documentation/package_specs/pd08.pdf; ComponentLink3Description: Configuration PROM Documents; ComponentLink3URL: http://www.xilinx.com/support/documentation/configuration_proms.htm; ComponentLink4Description: Xilinx.com Home; ComponentLink4URL: http://www.xilinx.com
footprint PD8 (DIP, 8-Leads, Row Spacing 7.62mm, Pitch 2.54mm, Body 9.36x6.5mm)
pins: 1 DATA (D0) (io) "Data Output.", 2 CLK (in) "Clock input for internal address counter.", 3 OE/~{RESET} (in) "DATA Output Enable/Address Counter Reset", 4 ~{CE} (in) "Reset internal Address Counter, Disable DATA Output, Force device into Standby Mode.", 5 GND (power) "Ground.", 6 NC "No Connection.", 7 VCC (power) "Positive Supply.", 8 VCC (power) "Positive Supply."

## XC17S20XLVO8C
designator U?
XC17S00XL Series, One-Time Programmable Configuration 3.3V PROM, 8-Pin TSOP, XCS20XL Compatible, Commercial Grade; Published: 17-Dec-2003; LatestRevisionDate: 16-Nov-2009; LatestRevisionNote: Updated to datasheet version 1.12, Jun-2008.; DatasheetVersion: ver1.12, Jun-2008; PackageVersion: ver1.1, Apr-2001; PackageReference: VO8; Publisher: Altium Limited; PackageDescription: 8-Pin Thin Small Outline Package (VO8); Supplier 1: Digi-Key; Supplier Part Number 1: XC17S20XLVO8C-ND; ComponentLink1Description: XC17S00/XL Datasheet; ComponentLink1URL: http://www.xilinx.com/support/documentation/data_sheets/ds030.pdf; ComponentLink2Description: VO8 Package Drawing; ComponentLink2URL: http://www.xilinx.com/support/documentation/package_specs/vo8.pdf; ComponentLink3Description: Configuration PROM Documents; ComponentLink3URL: http://www.xilinx.com/support/documentation/configuration_proms.htm; ComponentLink4Description: Xilinx.com Home; ComponentLink4URL: http://www.xilinx.com
footprint VO8_N (SOIC, 8-Leads, Body 4.9x3.9mm, Pitch 1.27mm, IPC Medium Density)
footprint VO8_L (SOIC, 8-Leads, Body 4.9x3.9mm, Pitch 1.27mm, IPC High Density)
footprint VO8_M (SOIC, 8-Leads, Body 4.9x3.9mm, Pitch 1.27mm, IPC Low Density)
pins: 1 DATA (D0) (io) "Data Output.", 2 CLK (in) "Clock input for internal address counter.", 3 OE/~{RESET} (in) "DATA Output Enable/Address Counter Reset", 4 ~{CE} (in) "Reset internal Address Counter, Disable DATA Output, Force device into Standby Mode.", 5 GND (power) "Ground.", 6 NC "No Connection.", 7 VCC (power) "Positive Supply.", 8 VCC (power) "Positive Supply."

## XC17S20XLVO8I
designator U?
XC17S00XL Series, One-Time Programmable Configuration 3.3V PROM, 8-Pin TSOP, XCS20XL Compatible, Industrial Grade; Published: 17-Dec-2003; LatestRevisionDate: 16-Nov-2009; LatestRevisionNote: Updated to datasheet version 1.12, Jun-2008.; DatasheetVersion: ver1.12, Jun-2008; PackageVersion: ver1.1, Apr-2001; PackageReference: VO8; Publisher: Altium Limited; PackageDescription: 8-Pin Thin Small Outline Package (VO8); Supplier 1: Digi-Key; Supplier Part Number 1: XC17S20XLVO8I-ND; ComponentLink1Description: XC17S00/XL Datasheet; ComponentLink1URL: http://www.xilinx.com/support/documentation/data_sheets/ds030.pdf; ComponentLink2Description: VO8 Package Drawing; ComponentLink2URL: http://www.xilinx.com/support/documentation/package_specs/vo8.pdf; ComponentLink3Description: Configuration PROM Documents; ComponentLink3URL: http://www.xilinx.com/support/documentation/configuration_proms.htm; ComponentLink4Description: Xilinx.com Home; ComponentLink4URL: http://www.xilinx.com
footprint VO8_N (SOIC, 8-Leads, Body 4.9x3.9mm, Pitch 1.27mm, IPC Medium Density)
footprint VO8_L (SOIC, 8-Leads, Body 4.9x3.9mm, Pitch 1.27mm, IPC High Density)
footprint VO8_M (SOIC, 8-Leads, Body 4.9x3.9mm, Pitch 1.27mm, IPC Low Density)
pins: 1 DATA (D0) (io) "Data Output.", 2 CLK (in) "Clock input for internal address counter.", 3 OE/~{RESET} (in) "DATA Output Enable/Address Counter Reset", 4 ~{CE} (in) "Reset internal Address Counter, Disable DATA Output, Force device into Standby Mode.", 5 GND (power) "Ground.", 6 NC "No Connection.", 7 VCC (power) "Positive Supply.", 8 VCC (power) "Positive Supply."

## XC17S20XLVOG8C
designator U?
XC17S00XL Series, One-Time Programmable Configuration 3.3V PROM, 8-Pin TSOP, XCS20XL Compatible, Commercial Grade, Pb-Free; Published: 17-Nov-2009; DatasheetVersion: ver1.12, Jun-2008; PackageVersion: ver1.1, Apr-2001; PackageReference: VOG8; Publisher: Altium Limited; PackageDescription: 8-Pin Thin Small Outline Package (VOG8) - Pb-Free; Supplier 1: Digi-Key; Supplier Part Number 1: XC17S20XLVOG8C-ND; ComponentLink1Description: XC17S00/XL Datasheet; ComponentLink1URL: http://www.xilinx.com/support/documentation/data_sheets/ds030.pdf; ComponentLink2Description: VOG8 Package Drawing; ComponentLink2URL: http://www.xilinx.com/support/documentation/package_specs/vo8.pdf; ComponentLink3Description: Configuration PROM Documents; ComponentLink3URL: http://www.xilinx.com/support/documentation/configuration_proms.htm; ComponentLink4Description: Xilinx.com Home; ComponentLink4URL: http://www.xilinx.com
footprint VOG8_N (SOIC, 8-Leads, Body 4.9x3.9mm, Pitch 1.27mm, IPC Medium Density)
footprint VOG8_L (SOIC, 8-Leads, Body 4.9x3.9mm, Pitch 1.27mm, IPC High Density)
footprint VOG8_M (SOIC, 8-Leads, Body 4.9x3.9mm, Pitch 1.27mm, IPC Low Density)
pins: 1 DATA (D0) (io) "Data Output.", 2 CLK (in) "Clock input for internal address counter.", 3 OE/~{RESET} (in) "DATA Output Enable/Address Counter Reset", 4 ~{CE} (in) "Reset internal Address Counter, Disable DATA Output, Force device into Standby Mode.", 5 GND (power) "Ground.", 6 NC "No Connection.", 7 VCC (power) "Positive Supply.", 8 VCC (power) "Positive Supply."

## XC17S30PD8C
designator U?
XC17S00 Series, One-Time Programmable Configuration 5V PROM, 8-Pin PDIP, XCS30 Compatible, Commercial Grade; Published: 17-Dec-2003; DatasheetVersion: ver1.12, Jun-2008; PackageVersion: rev1.1, Apr-2001; PackageReference: PD8; Publisher: Altium Limited; PackageDescription: 8-Pin Plastic DIP (PD8); Supplier 1: Digi-Key; Supplier Part Number 1: 122-1272-ND; Code_JEDEC: MS-001-BA; ComponentLink1Description: XC17S00/XL Datasheet; ComponentLink1URL: http://www.xilinx.com/support/documentation/data_sheets/ds030.pdf; ComponentLink2Description: PD8 Package Drawing; ComponentLink2URL: http://www.xilinx.com/support/documentation/package_specs/pd08.pdf; ComponentLink3Description: Configuration PROM Documents; ComponentLink3URL: http://www.xilinx.com/support/documentation/configuration_proms.htm; ComponentLink4Description: Xilinx.com Home; ComponentLink4URL: http://www.xilinx.com
footprint PD8 (DIP, 8-Leads, Row Spacing 7.62mm, Pitch 2.54mm, Body 9.36x6.5mm)
pins: 1 DATA (D0) (io) "Data Output.", 2 CLK (in) "Clock input for internal address counter.", 3 OE/~{RESET} (in) "DATA Output Enable/Address Counter Reset", 4 ~{CE} (in) "Reset internal Address Counter, Disable DATA Output, Force device into Standby Mode.", 5 GND (power) "Ground.", 6 NC "No Connection.", 7 VCC (power) "Positive Supply.", 8 VCC (power) "Positive Supply."

## XC17S30PD8I
designator U?
XC17S00 Series, One-Time Programmable Configuration 5V PROM, 8-Pin PDIP, XCS30 Compatible, Industrial Grade; Published: 17-Dec-2003; DatasheetVersion: ver1.12, Jun-2008; PackageVersion: rev1.1, Apr-2001; PackageReference: PD8; Publisher: Altium Limited; PackageDescription: 8-Pin Plastic DIP (PD8); Supplier 1: Digi-Key; Supplier Part Number 1: XC17S30PD8I-ND; Code_JEDEC: MS-001-BA; ComponentLink1Description: XC17S00/XL Datasheet; ComponentLink1URL: http://www.xilinx.com/support/documentation/data_sheets/ds030.pdf; ComponentLink2Description: PD8 Package Drawing; ComponentLink2URL: http://www.xilinx.com/support/documentation/package_specs/pd08.pdf; ComponentLink3Description: Configuration PROM Documents; ComponentLink3URL: http://www.xilinx.com/support/documentation/configuration_proms.htm; ComponentLink4Description: Xilinx.com Home; ComponentLink4URL: http://www.xilinx.com
footprint PD8 (DIP, 8-Leads, Row Spacing 7.62mm, Pitch 2.54mm, Body 9.36x6.5mm)
pins: 1 DATA (D0) (io) "Data Output.", 2 CLK (in) "Clock input for internal address counter.", 3 OE/~{RESET} (in) "DATA Output Enable/Address Counter Reset", 4 ~{CE} (in) "Reset internal Address Counter, Disable DATA Output, Force device into Standby Mode.", 5 GND (power) "Ground.", 6 NC "No Connection.", 7 VCC (power) "Positive Supply.", 8 VCC (power) "Positive Supply."

## XC17S30SOG8I
designator U?
XC17S00 Series, One-Time Programmable Configuration 5V PROM, 8-Pin SOIC, XCS30 Compatible, Industrial Grade, Pb-Free; Published: 17-Nov-2009; DatasheetVersion: ver1.12, Jun-2008; PackageVersion: ver1.1, Apr-2001; PackageReference: SOG8; Publisher: Altium Limited; PackageDescription: 8-Pin Small Outline Package (SOG8), Pb-Free; Code_JEDEC: MS-012; ComponentLink1Description: XC17S00/XL Datasheet; ComponentLink1URL: http://www.xilinx.com/support/documentation/data_sheets/ds030.pdf; ComponentLink2Description: SOG8 Package Drawing; ComponentLink2URL: http://www.xilinx.com/support/documentation/package_specs/so8.pdf; ComponentLink3Description: Configuration PROM Documents; ComponentLink3URL: http://www.xilinx.com/support/documentation/configuration_proms.htm; ComponentLink4Description: Xilinx.com Home; ComponentLink4URL: http://www.xilinx.com
footprint SOG8_N (SOIC, 8-Leads, Body 4.9x3.9mm, Pitch 1.27mm, IPC Medium Density)
footprint SOG8_L (SOIC, 8-Leads, Body 4.9x3.9mm, Pitch 1.27mm, IPC High Density)
footprint SOG8_M (SOIC, 8-Leads, Body 4.9x3.9mm, Pitch 1.27mm, IPC Low Density)
pins: 1 DATA (D0) (io) "Data Output.", 2 CLK (in) "Clock input for internal address counter.", 3 OE/~{RESET} (in) "DATA Output Enable/Address Counter Reset", 4 ~{CE} (in) "Reset internal Address Counter, Disable DATA Output, Force device into Standby Mode.", 5 GND (power) "Ground.", 6 NC "No Connection.", 7 VCC (power) "Positive Supply.", 8 VCC (power) "Positive Supply."

## XC17S30VO8C
designator U?
XC17S00 Series, One-Time Programmable Configuration 5V PROM, 8-Pin TSOP, XCS30 Compatible, Commercial Grade; Published: 17-Dec-2003; LatestRevisionDate: 16-Nov-2009; LatestRevisionNote: Updated to datasheet version 1.12, Jun-2008.; DatasheetVersion: ver1.12, Jun-2008; PackageVersion: ver1.1, Apr-2001; PackageReference: VO8; Publisher: Altium Limited; PackageDescription: 8-Pin Thin Small Outline Package (VO8); Supplier 1: Digi-Key; Supplier Part Number 1: XC17S30VO8C-ND; ComponentLink1Description: XC17S00/XL Datasheet; ComponentLink1URL: http://www.xilinx.com/support/documentation/data_sheets/ds030.pdf; ComponentLink2Description: VO8 Package Drawing; ComponentLink2URL: http://www.xilinx.com/support/documentation/package_specs/vo8.pdf; ComponentLink3Description: Configuration PROM Documents; ComponentLink3URL: http://www.xilinx.com/support/documentation/configuration_proms.htm; ComponentLink4Description: Xilinx.com Home; ComponentLink4URL: http://www.xilinx.com
footprint VO8_N (SOIC, 8-Leads, Body 4.9x3.9mm, Pitch 1.27mm, IPC Medium Density)
footprint VO8_L (SOIC, 8-Leads, Body 4.9x3.9mm, Pitch 1.27mm, IPC High Density)
footprint VO8_M (SOIC, 8-Leads, Body 4.9x3.9mm, Pitch 1.27mm, IPC Low Density)
pins: 1 DATA (D0) (io) "Data Output.", 2 CLK (in) "Clock input for internal address counter.", 3 OE/~{RESET} (in) "DATA Output Enable/Address Counter Reset", 4 ~{CE} (in) "Reset internal Address Counter, Disable DATA Output, Force device into Standby Mode.", 5 GND (power) "Ground.", 6 NC "No Connection.", 7 VCC (power) "Positive Supply.", 8 VCC (power) "Positive Supply."